# Altium footprint library DF3A-5P-2DS.PcbLib: 1 footprints
Each footprint in its own frame and in the unit in brackets; x right, y up, seen from the top. Pads: shape width x height; smd on the part's side, far side on the other; paste and mask are expansions set on the pad; w line width, h text height; cw(c..) or ccw(c..) is an arc to the next point about the centre after c.
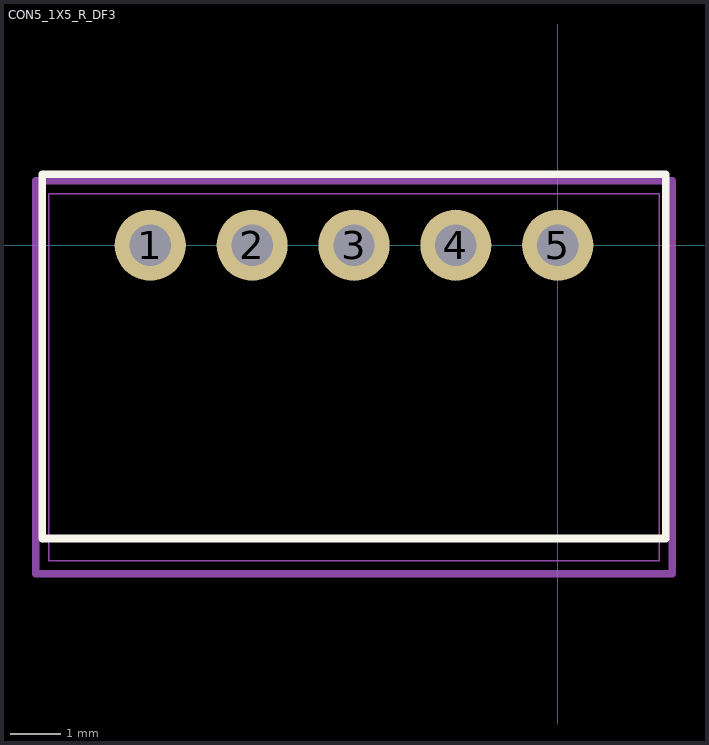
[diagram p0: the footprint, top view; thin cyan lines are the x and y axes]

## CON5_1X5_R_DF3 [mil]
pads (5):
  round 55 hole 32 mask+0: 1(-314.96,0) 2(-236.22,0) 3(-157.48,0) 4(-78.74,0) 5(0,0)
Top Overlay:
  lines w6: -398.48,-226.73 83.52,-226.73 83.52,55 -398.48,55 -398.48,-226.73
Mechanical 13:
  lines w1: -393.48,-244 78.52,-244 78.52,40 -393.48,40 -393.48,-244
Mechanical 15:
  lines w6: -403.48,-254 -403.48,50 88.52,50 88.52,-254 -403.48,-254
3D body: height 10, standoff 0, extent 0,0 10,10
3D body "DF3-5P-2DS.stp": height 197.35, standoff -113.67, extent -395,-226.73 77.44,56.73